# Altium schematic symbol library LTM4668.SchLib: 1 symbol
Pins are listed as number, name and electrical type; pins without a type are passive.

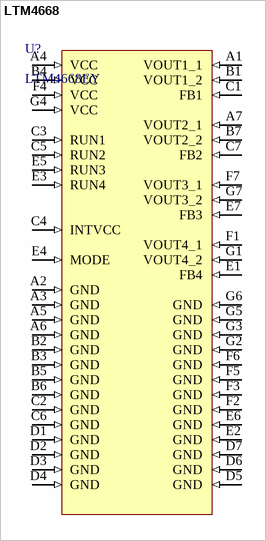
[diagram p0: symbol LTM4668]

## LTM4668
designator U?, comment LTM4668EY
footprint BGA49C80P7X7_625X625X210 (BGA, 49-Leads, Body 6.25x6.25mmx2.10mm, Pitch 0.80mm)
pins: A1 VOUT1_1 (in), A2 GND (in), A3 GND (in), A4 VCC (in), A5 GND (in), A6 GND (in), A7 VOUT2_1 (in), B1 VOUT1_2 (in), B2 GND (in), B3 GND (in), B4 VCC (in), B5 GND (in), B6 GND (in), B7 VOUT2_2 (in), C1 FB1 (in), C2 GND (in), C3 RUN1 (in), C4 INTVCC (in), C5 RUN2 (in), C6 GND (in), C7 FB2 (in), D1 GND (in), D2 GND (in), D3 GND (in), D4 GND (in), D5 GND (in), D6 GND (in), D7 GND (in), E1 FB4 (in), E2 GND (in), E3 RUN4 (in), E4 MODE (in), E5 RUN3 (in), E6 GND (in), E7 FB3 (in), F1 VOUT4_1 (in), F2 GND (in), F3 GND (in), F4 VCC (in), F5 GND (in), F6 GND (in), F7 VOUT3_1 (in), G1 VOUT4_2 (in), G2 GND (in), G3 GND (in), G4 VCC (in), G5 GND (in), G6 GND (in), G7 VOUT3_2 (in)